# EAGLE library part HIF3BD-10PA-2.54DS (library FP-21T for MITS)
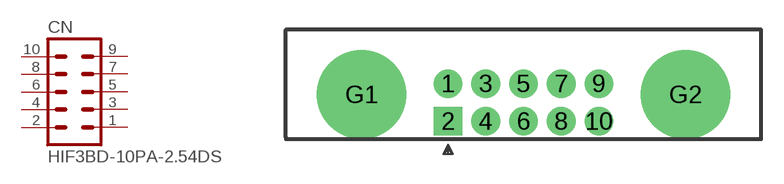
[diagram p7: symbol with the pads of HIF3D-10PA-2.54DS; footprint HIF3D-10PA-2.54DS]

Designator prefix CN

## HIF3BD-10PA-2.54DS  [HIF3D-10PA-2.54DS]
1  1  pas
2  2  pas
3  3  pas
4  4  pas
5  5  pas
6  6  pas
7  7  pas
8  8  pas
9  9  pas
10  10  pas

## Footprint HIF3D-10PA-2.54DS (pad centres in mm)
drill 1 pad 1.93: 1 -5.08,0; 3 -2.54,0; 4 -2.54,-2.54; 5 0,0; 6 0,-2.54; 7 2.54,0; 8 2.54,-2.54; 9 5.08,0; 10 5.08,-2.54
drill 1 pad 1.93 square: 2 -5.08,-2.54
drill 3.302 pad 6: G1 -10.9,-0.74; G2 10.9,-0.74